# EAGLE library part IV6_NUMITRON (library kalshagar)
Regular version with small footprint
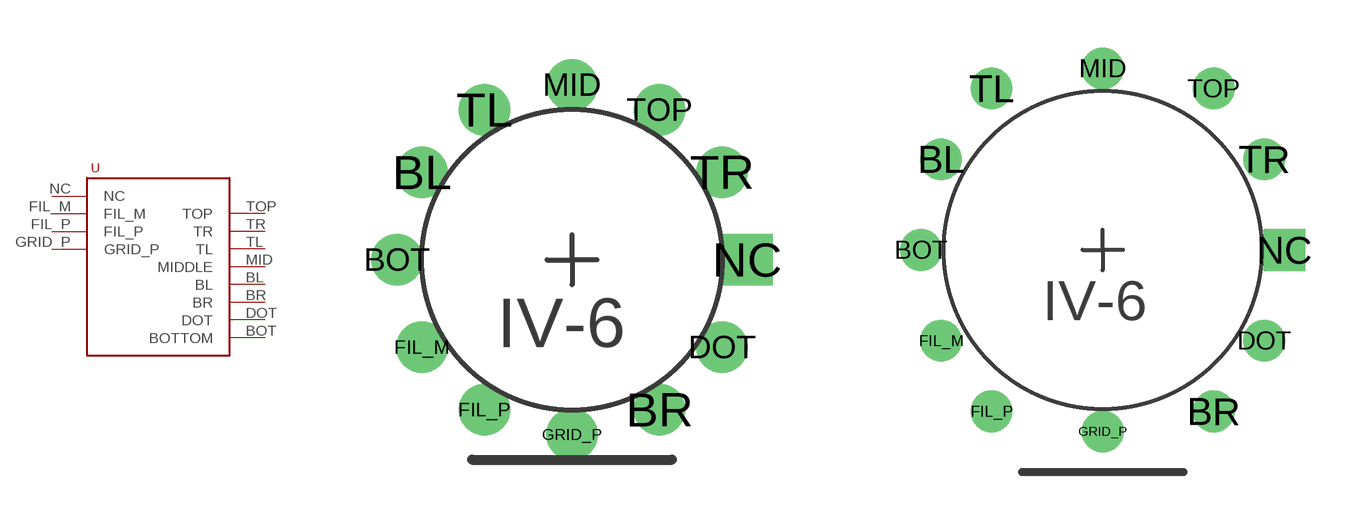
[diagram p4: symbol with the pads of IV6_NUMITRON_PAC; footprints IV6_NUMITRON_PAC, IV6_NUMITRON_PAC_LARGE]

Designator prefix -

## IV6_NUMITRON  [IV6_NUMITRON_PAC]
BL  BL
BOT  BOTTOM
BR  BR
DOT  DOT
FIL_M  FIL_M
FIL_P  FIL_P
GRID_P  GRID_P
MID  MIDDLE
NC  NC
TL  TL
TOP  TOP
TR  TR

## IV6_NUMITRONLARGE  [IV6_NUMITRON_PAC_LARGE]
Pads as for IV6_NUMITRON_PAC

## Footprint IV6_NUMITRON_PAC (pad centres in mm)
drill 0.8: BL -3.81,2.223; BOT -4.445,0; BR 2.223,-3.81; DOT 3.81,-2.223; FIL_M -3.81,-2.223; FIL_P -2.223,-3.81; GRID_P 0,-4.445; MID 0,4.445; TL -2.223,3.81; TOP 2.223,3.81; TR 3.81,2.223
drill 0.8 square: NC 4.445,0

## Footprint IV6_NUMITRON_PAC_LARGE (pad centres in mm)
drill 0.8: BL -5.08,2.857; BOT -5.715,0; BR 3.493,-5.08; DOT 5.08,-2.857; FIL_M -5.08,-2.857; FIL_P -3.493,-5.08; GRID_P 0,-5.715; MID 0,5.715; TL -3.493,5.08; TOP 3.493,5.08; TR 5.08,2.857
drill 0.8 square: NC 5.715,0